# Altium footprint library HabLib.PcbLib: 72 footprints (part 2 of 5)
Each footprint in its own frame and in the unit in brackets; x right, y up, seen from the top. Pads: shape width x height; smd on the part's side, far side on the other; paste and mask are expansions set on the pad; w line width, h text height; cw(c..) or ccw(c..) is an arc to the next point about the centre after c.
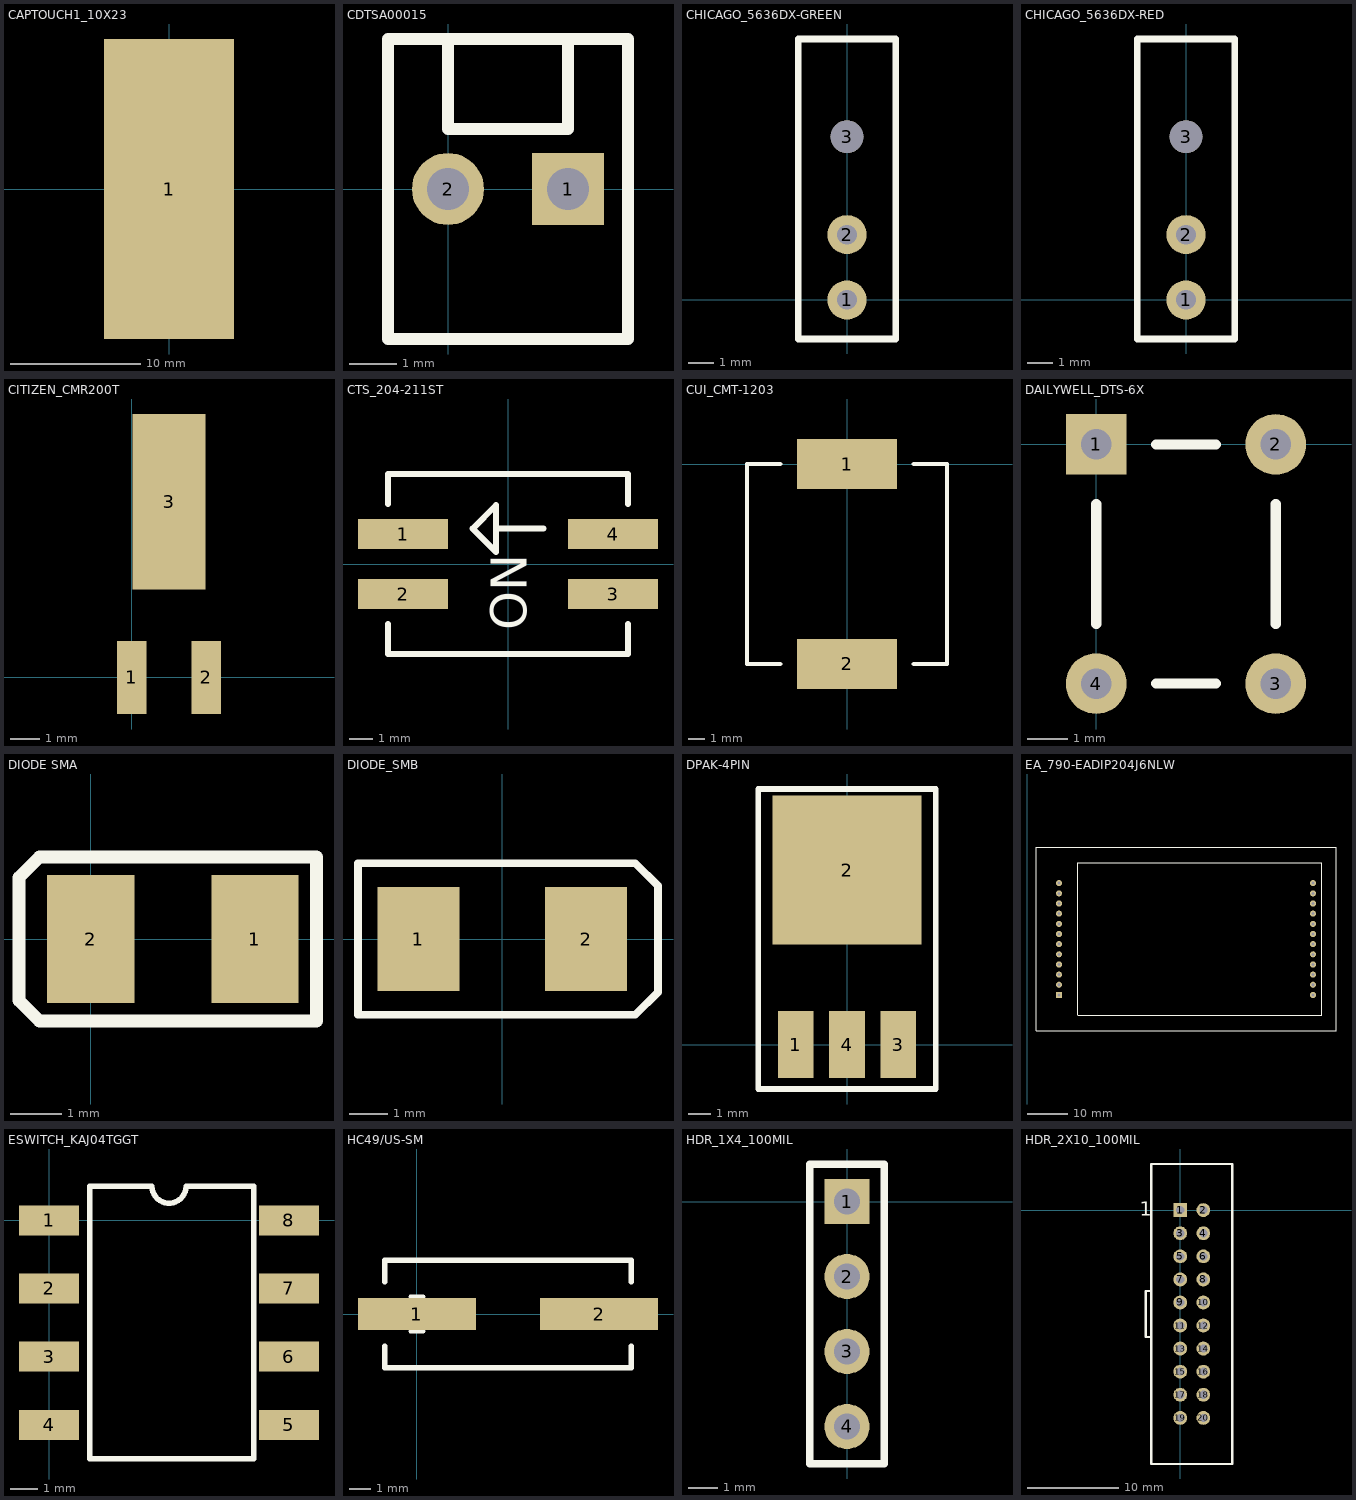
[diagram p1: the footprints below, top view; thin cyan lines are the x and y axes]

## CAPTOUCH1_10X23 [mm] "Cap Touch pad 10x10mm"
height 0.65
pads (1):
  rect 10x23 smd: 1(0,0)

## CDTSA00015 [mil]
pads (2):
  rect 60x60 hole 35: 1(100,0)
  round 60 hole 35: 2(0,0)
Top Overlay:
  lines w10: 0,125 0,50 100,50 100,125 ; -50,-125 150,-125 150,125 -50,125 -50,-125
3D body: height 395, standoff 100, extent 88.05,-11.98 111.95,11.98
3D body: height 395, standoff 100, extent -11.95,-11.98 11.95,11.98
3D body: height 100, standoff 20, extent -50,-125 150,125
3D body: height 20, standoff 0, extent -50,100 150,125
3D body: height 20, standoff 0, extent -50,-125 150,-100
3D body: height 310, standoff 100, extent 0,90 100,125
3D body: height 310, standoff 200, extent 0,50 100,90

## CHICAGO_5636DX-GREEN [mil] "CHICAGO MINIATURE 5636 SERIES GREEN"
height 280
pads (3):
  round 60 hole 30: 1(0,0) 2(0,100)
  round 50 hole 50 unplated: 3(0,250)
Top Overlay:
  lines w10: -75,-60 -75,400 75,400 75,-60 -75,-60
3D body: height 280, standoff 0, extent -75,-60 75,400
3D body: height 240, standoff 40, extent -45,400 45,535

## CHICAGO_5636DX-RED [mil] "CHICAGO MINIATURE 5636 SERIES RED"
height 280
pads (3):
  round 60 hole 30: 1(0,0) 2(0,100)
  round 50 hole 50 unplated: 3(0,250)
Top Overlay:
  lines w10: -75,-60 -75,400 75,400 75,-60 -75,-60
3D body: height 280, standoff 0, extent -75,-60 75,400
3D body: height 240, standoff 40, extent -45,400 45,535

## CITIZEN_CMR200T [mm] "CRYSTAL, CYLINDRICAL"
pads (3):
  rect 1x2.5 smd: 1(0,0) 2(2.54,0)
  rect 2.5x6 smd: 3(1.27,6)
3D body: height 2, standoff 0, extent 0.2,3.3 2.3,8.8

## CTS_204-211ST [mm] "SWITCH, MFG: CTS, PN: 204-211ST, DPST, SM"
pads (4):
  rect 3.81x1.27 smd: 1(-4.445,1.27) 2(-4.445,-1.27) 3(4.445,-1.27) 4(4.445,1.27)
Top Overlay:
  lines w0.254: -5.08,-2.54 -5.08,-3.81 5.08,-3.81 5.08,-2.54 ; -5.08,2.54 -5.08,3.81 5.08,3.81 5.08,2.54 ; -0.5,1.5 1.5,1.5 ; -1.5,1.5 -0.5,0.5 -0.5,2.5 -1.5,1.5
  text "ON" at 0.8,-2.8 h1.52
3D body: height 10.16, standoff 8.25, extent 0,-2.54 2.54,2.54
3D body: height 8.25, standoff 1.27, extent -2.54,-2.54 2.54,2.54
3D body: height 8.89, standoff 1.27, extent -5.08,-3.81 5.08,3.81

## CUI_CMT-1203 [mm] "PIEZO, SM"
pads (2):
  rect 6x3 smd: 1(0,0) 2(0,-12)
Top Overlay:
  lines w0.254: -4,-12 -6,-12 -6,0 -4,0 ; 4,-12 6,-12 6,0 4,0
3D body: height 3, standoff 0, extent -5.75,-11.75 5.75,-0.25
3D body: height 0.9, standoff 0, extent -1.75,-0.25 2,0
3D body: height 0.9, standoff 0, extent -1.75,-12 2,-11.75

## DAILYWELL_DTS-6X [mm]
pads (4):
  rect 1.52x1.52 hole 0.76: 1(0,0)
  round 1.52 hole 0.76: 2(4.5,0) 3(4.5,-6) 4(0,-6)
Top Overlay:
  lines w0.254: 0,-4.5 0,-1.5 ; 1.5,-6 3,-6 ; 1.5,0 3,0 ; 4.5,-4.5 4.5,-1.5
3D body: height 3.81, standoff 0, extent 0,-6 4.5,0
3D body: height 4.19, standoff 3.94, extent 3.496,-1.007 4.508,0.007
3D body: height 7.11, standoff 3.94, extent 0.612,-4.648 3.901,-1.352
3D body: height 4.19, standoff 3.94, extent -0.004,-1.007 1.008,0.007
3D body: height 4.19, standoff 3.94, extent -0.004,-6.007 1.008,-4.993
3D body: height 4.19, standoff 3.94, extent 3.496,-6.007 4.508,-4.993
3D body: height 3.94, standoff 3.81, extent -0.004,-6.007 4.508,0

## DIODE SMA [mm] "SMA DIODE FOOTPRINT"
height 2.54
pads (2):
  rect 1.7x2.5 smd: 1(3.2,0) 2(0,0)
Top Overlay:
  lines w0.254: -1.4,-1.2 -1.4,1.2 -1,1.6 4.4,1.6 4.4,-1.6 -1,-1.6 -1.4,-1.2
3D body: height 2.11, standoff 2.1, extent 0.4,-1.5 0.7,1.5
3D body: height 1.8, standoff 0, extent 3.4,-0.9 3.8,1
3D body: height 1.8, standoff 0, extent -0.5,-0.9 -0.1,1
3D body: height 2.1, standoff 0, extent -0.1,-1.5 3.4,1.5

## DIODE_SMB [mm] "DIODE SMB PACKAGE"
pads (2):
  rect 2.159x2.743 smd: 1(-2.21,0) 2(2.21,0)
Top Overlay:
  lines w0.2: -3.8,-2 3.5,-2 4.1,-1.4 4.1,1.4 3.5,2 -3.8,2 -3.8,-2
3D body: height 1.52, standoff 0, extent -3,-1 -2.5,1
3D body: height 1.52, standoff 0, extent 2.5,-1 3,1
3D body: height 2.3, standoff 0, extent -2.5,-2 2.5,2
3D body: height 2.31, standoff 2.3, extent 1.2,-2 1.9,2

## DPAK-4PIN [mm] "ST MICRO DPAK"
height 2.54
pads (4):
  rect 1.6x3 smd: 1(-2.3,0) 3(2.3,0) 4(0,0)
  rect 6.7x6.7 smd: 2(0,7.85)
Top Overlay:
  lines w0.254: -4,-2 4,-2 4,11.5 -4,11.5 -4,-2
3D body: height 2.54, standoff 0, extent -3,5 3,10
3D body: height 1.25, standoff 0, extent -3,10 3,10.5
3D body: height 1.4, standoff 1.2, extent 1.75,0 2.75,5
3D body: height 1.4, standoff 1.2, extent -0.5,0 0.5,5
3D body: height 1.4, standoff 1.2, extent -2.75,0 -1.75,5
3D body: height 1.2, standoff 0, extent 1.75,0 2.75,0.25
3D body: height 1.2, standoff 0, extent -0.5,0 0.5,0.25
3D body: height 1.2, standoff 0, extent -2.75,0 -1.75,0.25

## EA_790-EADIP204J6NLW [mil] "DISPLAY, 4X20, WITH ICONS, BLK&WHT, LED BACKLIGHT, ROHS"
height 100
pads (24):
  rect 60x60 hole 30: 1(311.38,2350)
  round 60 hole 30: 2(311.38,2450) 3(311.38,2550) 4(311.38,2650) 5(311.38,2750) 6(311.38,2850) 7(311.38,2950) 8(311.38,3050) 9(311.38,3150) 10(311.38,3250) 11(311.38,3350) 12(311.38,3450) 13(2811.38,3450) 14(2811.38,3350) 15(2811.38,3250) 16(2811.38,3150) 17(2811.38,3050) 18(2811.38,2950) 19(2811.38,2850) 20(2811.38,2750) 21(2811.38,2650) 22(2811.38,2550) 23(2811.38,2450) 24(2811.38,2350)
Top Overlay:
  lines w10: 498.39,2152.48 498.39,3648.54 2899.96,3648.54 2899.96,2152.48 502.32,2152.48 ; 85,1995 85,3806.02 3037.76,3806.02 3037.76,1995 85,1995
3D body: height 425.2, standoff 0, extent 85,1995 3037.76,3806.02
3D body: height 429.13, standoff 425.2, extent 498.39,2152.48 2899.96,3648.54

## ESWITCH_KAJ04TGGT [mm]
pads (8):
  rect 2.2x1.1 smd: 1(0,0) 2(0,-2.5) 3(0,-5) 4(0,-7.5) 5(8.8,-7.5) 6(8.8,-5) 7(8.8,-2.5) 8(8.8,0)
Top Overlay:
  lines w0.2: 1.5,-8.75 1.5,1.25 3.775,1.25 ccw(c4.4,1.25) 5.025,1.25 7.5,1.25 7.5,-8.75 1.5,-8.75
3D body: height 3.4, standoff 3.2, extent 4.5,-0.5 6.5,0.5
3D body: height 3.2, standoff 3.2, extent 2.5,-0.5 4.5,0.5
3D body: height 3.4, standoff 3.2, extent 4.5,-3 6.5,-2
3D body: height 3.2, standoff 3.2, extent 2.5,-3 4.5,-2
3D body: height 3.4, standoff 3.2, extent 4.5,-5.5 6.5,-4.5
3D body: height 3.2, standoff 3.2, extent 2.5,-5.5 4.5,-4.5
3D body: height 3.2, standoff 3.2, extent 2.5,-8 4.5,-7
3D body: height 3.4, standoff 3.2, extent 4.5,-8 6.5,-7
3D body: height 3.2, standoff 0, extent 1.5,-8.8 7.5,1.3

## HC49/US-SM [mm] "Chip Resistor; Body 3.2 x 1.6 mm (LxW typ)"
height 2.54
pads (2):
  rect 5.5x1.5 smd: 1(0,0) 2(8.5,0)
Top Overlay:
  lines w0.2: -0.3,-0.8 0.3,-0.8 ; -0.3,0.8 0.3,0.8
  lines w0.254: -1.5,-1.5 -1.5,-2.5 4,-2.5 10,-2.5 10,-1.5 ; -1.5,1.5 -1.5,2.5 4,2.5 10,2.5 10,1.5
3D body: height 4.19, standoff 0.64, extent -0.5,-2 9,2
3D body: height 0.64, standoff 0, extent -1,-2 9.5,2

## HDR_1X4_100MIL [mil] "HEADER, 1X4, 100MIL SPACING, TH"
height 350
pads (4):
  rect 60x60 hole 35: 1(0,0)
  round 60 hole 35: 2(0,-100) 3(0,-200) 4(0,-300)
Top Overlay:
  lines w10: -50,-350 50,-350 50,50 -50,50 -50,-350
3D body: height 330, standoff 100, extent -14.94,-314.97 14.94,-285.03
3D body: height 100, standoff 0, extent -50,-350 50,50
3D body: height 330, standoff 100, extent -14.94,-214.97 14.94,-185.03
3D body: height 330, standoff 100, extent -14.94,-114.97 14.94,-85.03
3D body: height 330, standoff 100, extent -14.94,-14.97 14.94,14.97

## HDR_2X10_100MIL [mil] "HEADER, 2X10, 100MIL SPACING, TH"
height 350
pads (20):
  rect 60x60 hole 35: 1(0,0)
  round 60 hole 35: 2(100,0) 3(0,-100) 4(100,-100) 5(0,-200) 6(100,-200) 7(0,-300) 8(100,-300) 9(0,-400) 10(100,-400) 11(0,-500) 12(100,-500) 13(0,-600) 14(100,-600) 15(0,-700) 16(100,-700) 17(0,-800) 18(100,-800) 19(0,-900) 20(100,-900)
Top Overlay:
  lines w10: -125,-550 -150,-550 -150,-350 -125,-350 ; -125,-1100 -125,200 225,200 225,-1100 -125,-1100
  text "1" at -175,-25 h60
3D body: height 325, standoff 0, extent 85.06,-814.97 114.94,-785.03
3D body: height 325, standoff 0, extent 85.06,-714.97 114.94,-685.03
3D body: height 325, standoff 0, extent 85.06,-614.97 114.94,-585.03
3D body: height 325, standoff 0, extent 85.06,-514.97 114.94,-485.03
3D body: height 325, standoff 0, extent 85.06,-414.97 114.94,-385.03
3D body: height 325, standoff 0, extent 85.06,-314.97 114.94,-285.03
3D body: height 325, standoff 0, extent 85.06,-214.97 114.94,-185.03
3D body: height 325, standoff 0, extent 85.06,-114.97 114.94,-85.03
3D body: height 325, standoff 0, extent 85.06,-14.97 114.94,14.97
3D body: height 325, standoff 0, extent -14.94,-314.97 14.94,-285.03
3D body: height 325, standoff 0, extent 85.06,-914.97 114.94,-885.03
3D body: height 325, standoff 0, extent -14.94,-914.97 14.94,-885.03
3D body: height 325, standoff 0, extent -14.94,-814.97 14.94,-785.03
3D body: height 325, standoff 0, extent -14.94,-714.97 14.94,-685.03
3D body: height 325, standoff 0, extent -14.94,-614.97 14.94,-585.03
3D body: height 325, standoff 0, extent -14.94,-514.97 14.94,-485.03
3D body: height 325, standoff 0, extent -14.94,-414.97 14.94,-385.03
3D body: height 325, standoff 0, extent -14.94,-214.97 14.94,-185.03
3D body: height 325, standoff 0, extent -14.94,-114.97 14.94,-85.03
3D body: height 325, standoff 0, extent -14.94,-14.97 14.94,14.97
3D body: height 350, standoff 0, extent -122.5,-1100 227.5,200
3D body: height 1, standoff 0, extent -122.5,-1100 227.5,200